# Altium footprint library LED.PcbLib: 3 footprints
Each footprint in its own frame and in the unit in brackets; x right, y up, seen from the top. Pads: shape width x height; smd on the part's side, far side on the other; paste and mask are expansions set on the pad; w line width, h text height; cw(c..) or ccw(c..) is an arc to the next point about the centre after c.
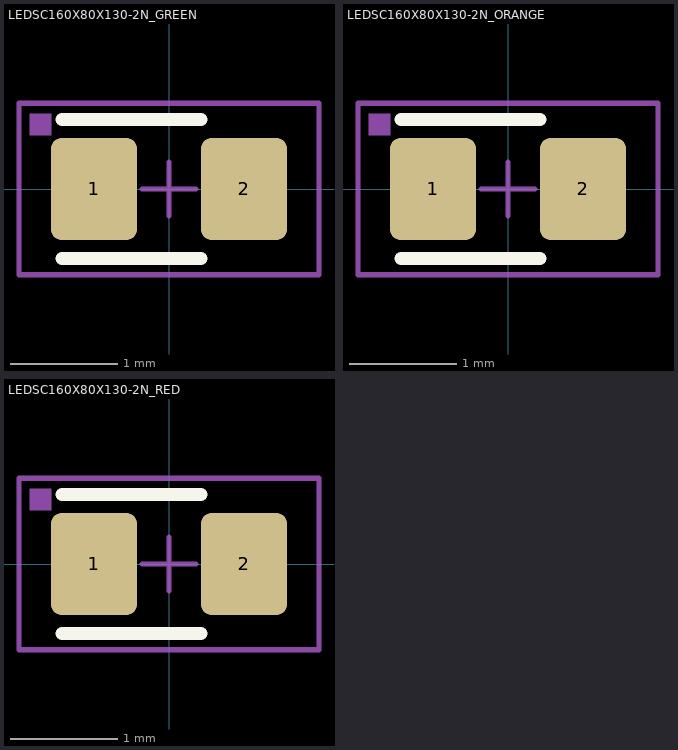
[diagram p0: the footprints below, top view; thin cyan lines are the x and y axes]

## LEDSC160X80X130-2N_GREEN [mm] "Green SMD LED 1608 Metric"
height 1.3
pads (2):
  rrect23% 0.8x0.95 smd: 1(-0.7,0) 2(0.7,0)
Top Overlay:
  lines w0.12: -1,-0.65 0.3,-0.65 ; -1,0.65 0.3,0.65
15. Courtyard TOP:
  lines w0.05: -0.25,0 0.25,0 ; 0,-0.25 0,0.25 ; -1.4,-0.8 1.4,-0.8 1.4,0.8 -1.4,0.8 -1.4,-0.8
18. Assembly TOP:
  region: -1.3,0.7 -1.1,0.7 -1.1,0.5 -1.3,0.5
  lines w0.05: -1.4,-0.8 -1.4,0.8 1.4,0.8 1.4,-0.8 -1.4,-0.8
  text ".designator" at -1.3,-0.3 h0.7
3D body: height 0.6, standoff 0, extent -0.81,-0.4 0.81,0.4

## LEDSC160X80X130-2N_ORANGE [mm] "Orange SMD LED 1608 Metric"
height 1.3
pads (2):
  rrect23% 0.8x0.95 smd: 1(-0.7,0) 2(0.7,0)
Top Overlay:
  lines w0.12: -1,-0.65 0.3,-0.65 ; -1,0.65 0.3,0.65
15. Courtyard TOP:
  lines w0.05: -0.25,0 0.25,0 ; 0,-0.25 0,0.25 ; -1.4,-0.8 1.4,-0.8 1.4,0.8 -1.4,0.8 -1.4,-0.8
18. Assembly TOP:
  region: -1.3,0.7 -1.1,0.7 -1.1,0.5 -1.3,0.5
  lines w0.05: -1.4,-0.8 -1.4,0.8 1.4,0.8 1.4,-0.8 -1.4,-0.8
  text ".designator" at -1.3,-0.3 h0.7
3D body: height 0.6, standoff 0, extent -0.81,-0.4 0.81,0.4

## LEDSC160X80X130-2N_RED [mm] "Red SMD LED 1608 Metric"
height 1.3
pads (2):
  rrect23% 0.8x0.95 smd: 1(-0.7,0) 2(0.7,0)
Top Overlay:
  lines w0.12: -1,-0.65 0.3,-0.65 ; -1,0.65 0.3,0.65
15. Courtyard TOP:
  lines w0.05: -0.25,0 0.25,0 ; 0,-0.25 0,0.25 ; -1.4,-0.8 -1.4,0.8 1.4,0.8 1.4,-0.8 -1.4,-0.8
18. Assembly TOP:
  region: -1.3,0.7 -1.1,0.7 -1.1,0.5 -1.3,0.5
  lines w0.05: -1.4,-0.8 1.4,-0.8 1.4,0.8 -1.4,0.8 -1.4,-0.8
  text ".designator" at -1.3,-0.3 h0.7
3D body: height 0.6, standoff 0, extent -0.81,-0.4 0.81,0.4